# Altium schematic symbol library IIDKLib.SchLib: 4 symbols
Pins are listed as number, name and electrical type; pins without a type are passive.

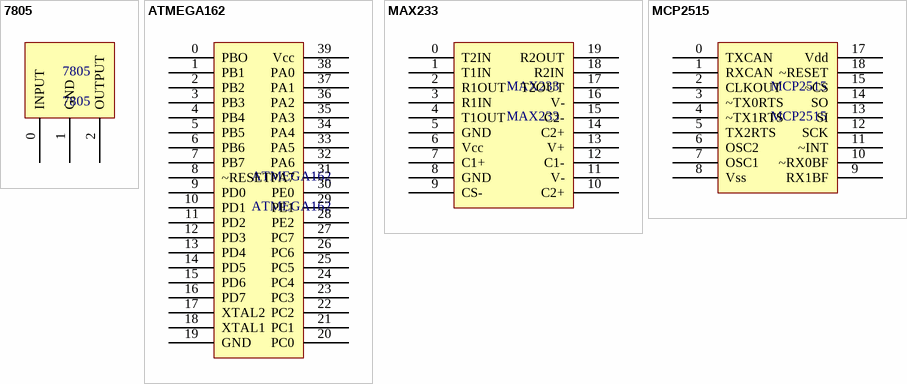
[diagram p0: symbols 7805 to MCP2515]

## 7805
designator 7805
MC7805 Voltage Regulator
pins: 0 INPUT, 1 GND, 2 OUTPUT

## ATMEGA162
designator ATMEGA162
Atmega162 micro controler
pins: 0 PBO "OC0/T0", 1 PB1 "OC2/T1", 2 PB2 "RXD1/AIN0", 3 PB3 "TXD1/AIN1", 4 PB4 "~SS/OC3B", 5 PB5 "MOSI", 6 PB6 "MISO", 7 PB7 "SCK", 8 ~RESET, 9 PD0 "RXD0", 10 PD1 "TXD0", 11 PD2 "INT0/XCK1", 12 PD3 "INT1/ICP3", 13 PD4 "TOSC!/XCK0/OC3A", 14 PD5 "OC1A/TOSC2", 15 PD6 "~WR", 16 PD7 "~RD", 17 XTAL2, 18 XTAL1, 19 GND, 20 PC0 "A8/PCINT8", 21 PC1 "A9/PCINT9", 22 PC2 "A11/PCINT11", 23 PC3 "A12/TCK/PCINT12", 24 PC4 "A12/TCK/PCINT12", 25 PC5 "A13/TMS/PCINT14", 26 PC6 "A14/TDO/PCINT14", 27 PC7 "A15/TDi/PCINT15", 28 PE2 "OC1B", 29 PE1 "ALE", 30 PE0 "ICP1/INT2", 31 PA7 "AD7/PCINT7", 32 PA6 "AD6/PCINT6", 33 PA5 "AD5/PCINT5", 34 PA4 "AD4/PCINT4", 35 PA3 "AD3/PCINT3", 36 PA2 "AD2/PCINT2", 37 PA1 "AD1/PCINT1", 38 PA0 "AD0/PCINT0", 39 Vcc

## MAX233
designator MAX233
Maxim RS232 tranciver
pins: 0 T2IN, 1 T1IN, 2 R1OUT, 3 R1IN, 4 T1OUT, 5 GND, 6 Vcc, 7 C1+ "(V+)C1+", 8 GND, 9 CS- "(V-)CS-", 10 C2+ "C2+(C2-)", 11 V- "v-(C2-)", 12 C1- "C1-(C1+)", 13 V+, 14 C2+, 15 C2-, 16 V-, 17 T2OUT, 18 R2IN, 19 R2OUT "R2OUt"

## MCP2515
designator MCP2515
CAN controler
pins: 0 TXCAN, 1 RXCAN, 2 CLKOUT "CLKOUT/SOF", 3 ~TX0RTS, 4 ~TX1RTS, 5 TX2RTS, 6 OSC2, 7 OSC1, 8 Vss, 9 RX1BF "~RX1BF", 10 ~RX0BF "¨RX0BF", 11 ~INT, 12 SCK, 13 SI, 14 SO, 15 ~CS, 17 Vdd, 18 ~RESET